# Altium schematic symbol library Docking Station.SchLib: 9 symbols
Pins are listed as number, name and electrical type; pins without a type are passive.

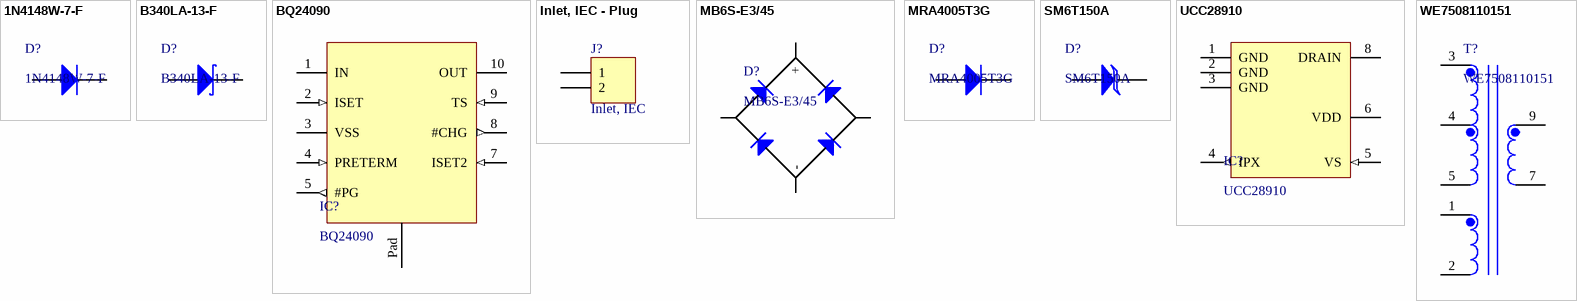
[diagram p0: symbols 1N4148W-7-F to WE7508110151]

## 1N4148W-7-F
designator D?
Diode, Switch, 300mA, 100V
footprint SOD123 (SODFL, 2-Leads, Body 1,55x3,70mm, IPC Medium Density)
pins: 1 A, 2 K

## B340LA-13-F
designator D?
Diode, Schottky, 40V, 3A
footprint SMA (Molded Diode, 2-Leads, Body 4,31x2,60mm, IPC Medium Density)
pins: 1 A, 2 K

## BQ24090
designator IC?
Battery Charger, Single Cell Li-Ion/LiPo, 1A
footprint TSSOP50P490X110_HS-11N (TSSOP, 10-Leads, Body 3,00x3,00mm, Pitch 0,50mm, Thermal Pad 1,88x1,57mm, IPC Medium Density)
pins: 1 IN (power), 2 ISET (in), 3 VSS (power), 4 PRETERM (in), 5 #PG (out), 7 ISET2 (in), 8 #CHG (out), 9 TS (in), 10 OUT (power), Pad Thermal

## Inlet, IEC - Plug
designator J?, comment Inlet, IEC
Inlet, IEC - Plug
signal-integrity model Connector
footprint Inlet, IEC - Plug
pins: 1, 2

## MB6S-E3/45
designator D?
Diode, Bridge Rectifier
footprint SOP250P670X290-4N (SOP, 4-Leads, Body 4,75x3,87mm, Pitch 2,50mm, IPC Medium Density)
pins: 1 AC, 2 AC, 3 +, 4 -

## MRA4005T3G
designator D?
Diode, Standard, 1A
footprint SMA (Molded Diode, 2-Leads, Body 4,31x2,60mm, IPC Medium Density)
pins: 1 A, 2 K

## SM6T150A
designator D?
Diode, Transient Voltage Suppresor, 150V, 600W
footprint SMB
pins: 1 A, 2 K

## UCC28910
designator IC?
700V Flyback Switcher with Constant-Voltage Constant-Current and Primary-side Control
footprint SOIC127P600X175-7N (SOIC, 7-Leads, Body 4,90x3,90mm, Pitch 1,27mm, IPC Medium Density)
pins: 1 GND (power), 2 GND (power), 3 GND (power), 4 IPX (out), 5 VS (in), 6 VDD (power), 8 DRAIN

## WE7508110151
designator T?
Transformer, Flyback
footprint WE7508110151
pins: 1 Aux1, 2 Aux2, 3 Pri1, 4 Pri2, 5 Pri3, 7 Sec2, 9 Sec1